# Altium schematic symbol library SCH - MCU - ATSAM - MICROCHIP ATSAMRH71F20C-7GB-E CQFP256.SchLib: 1 symbol
Pins are listed as number, name and electrical type; pins without a type are passive.

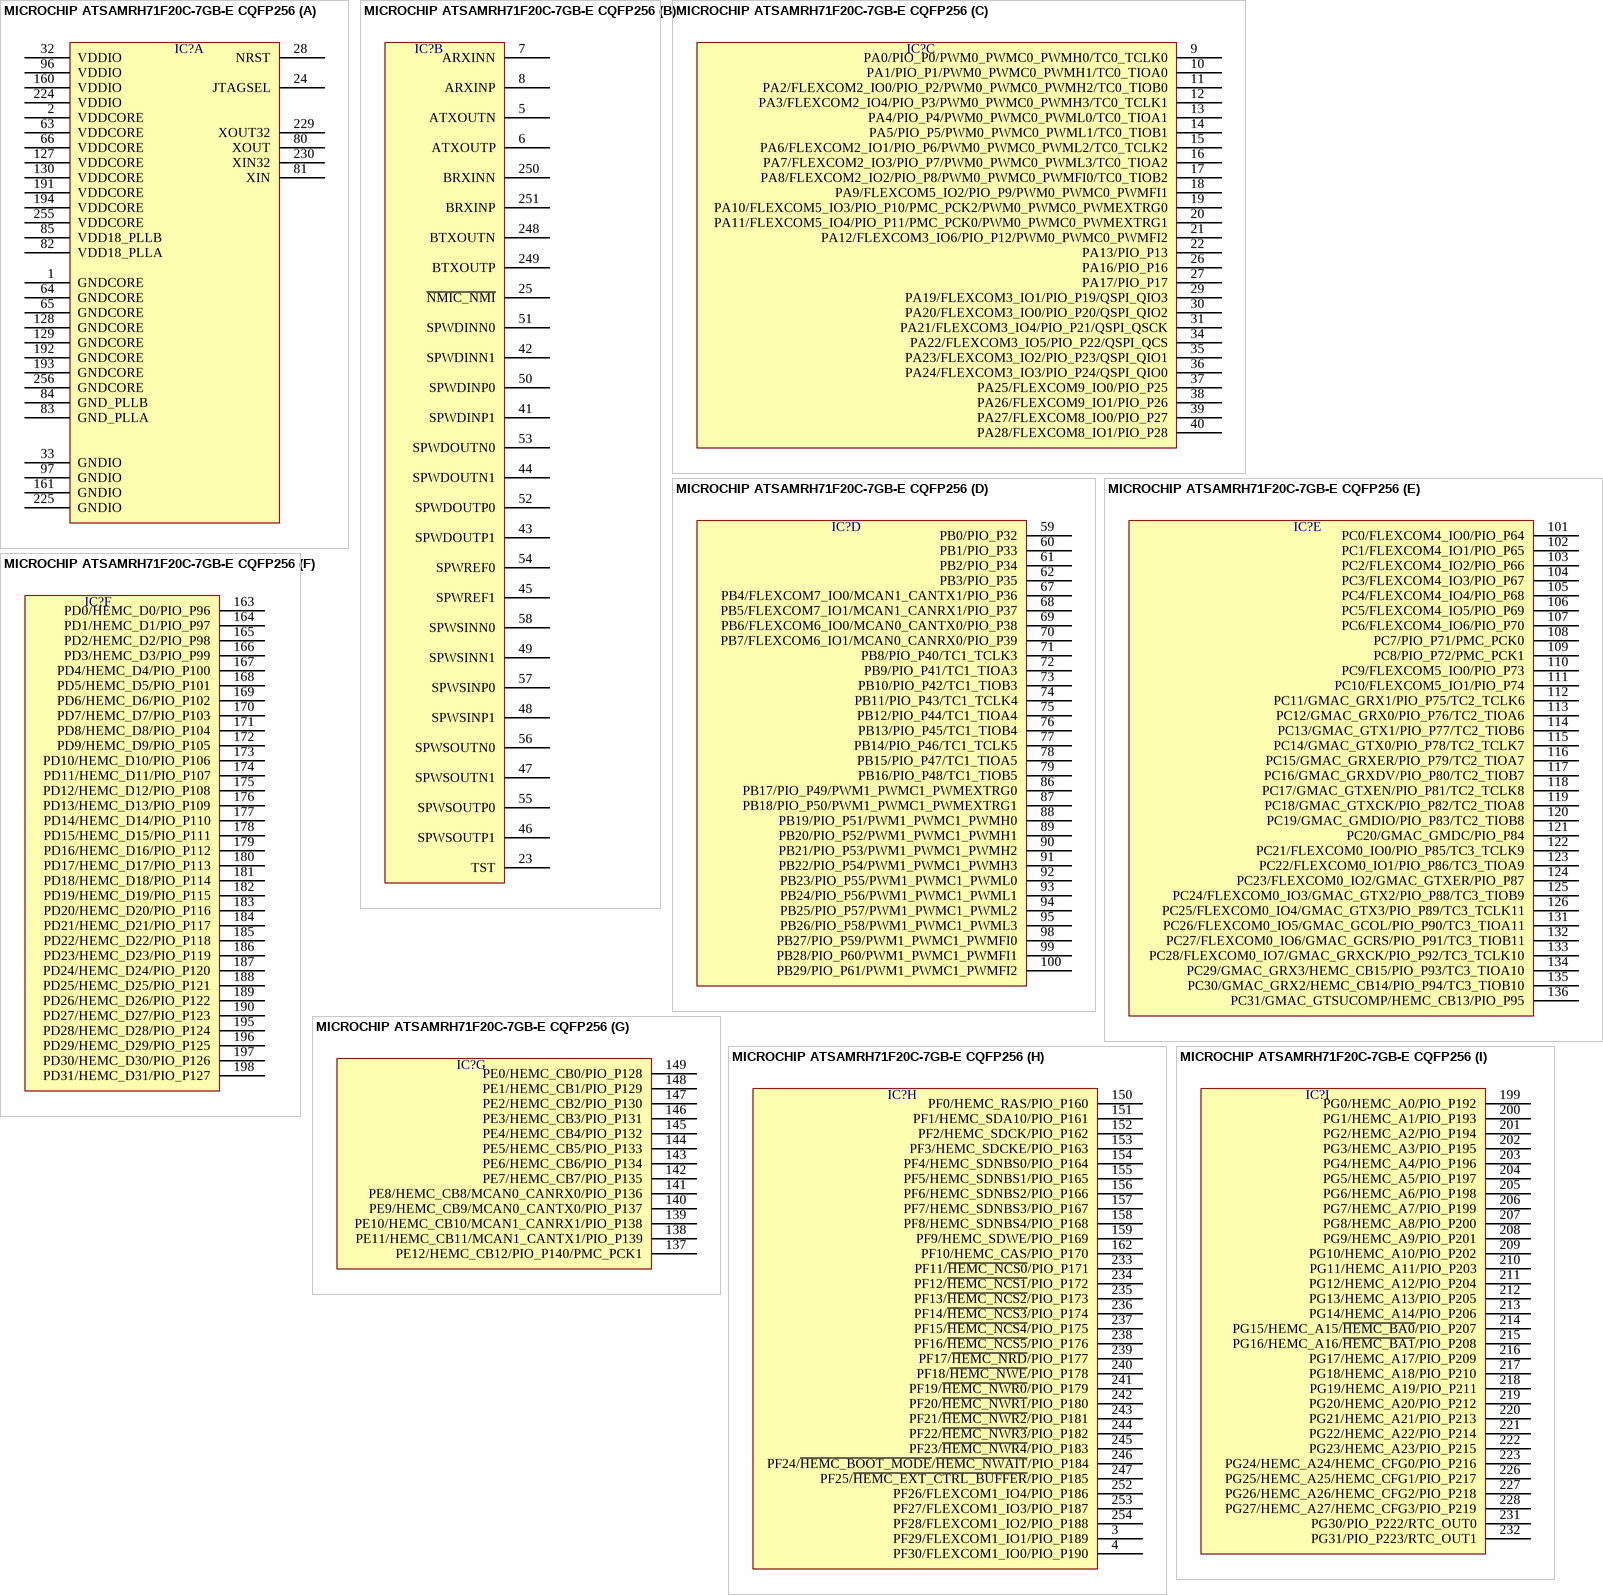
[diagram p0: symbol MICROCHIP ATSAMRH71F20C-7GB-E CQFP256]

## MICROCHIP ATSAMRH71F20C-7GB-E CQFP256
designator IC?  (value not drawn)
part A pins: 1 GNDCORE, 2 VDDCORE, 24 JTAGSEL, 28 NRST, 32 VDDIO, 33 GNDIO, 63 VDDCORE, 64 GNDCORE, 65 GNDCORE, 66 VDDCORE, 80 XOUT, 81 XIN, 82 VDD18_PLLA, 83 GND_PLLA, 84 GND_PLLB, 85 VDD18_PLLB, 96 VDDIO, 97 GNDIO, 127 VDDCORE, 128 GNDCORE, 129 GNDCORE, 130 VDDCORE, 160 VDDIO, 161 GNDIO, 191 VDDCORE, 192 GNDCORE, 193 GNDCORE, 194 VDDCORE, 224 VDDIO, 225 GNDIO, 229 XOUT32, 230 XIN32, 255 VDDCORE, 256 GNDCORE
part B pins: 5 ATXOUTN, 6 ATXOUTP, 7 ARXINN, 8 ARXINP, 23 TST, 25 ~{NMIC_NMI}, 41 SPWDINP1, 42 SPWDINN1, 43 SPWDOUTP1, 44 SPWDOUTN1, 45 SPWREF1, 46 SPWSOUTP1, 47 SPWSOUTN1, 48 SPWSINP1, 49 SPWSINN1, 50 SPWDINP0, 51 SPWDINN0, 52 SPWDOUTP0, 53 SPWDOUTN0, 54 SPWREF0, 55 SPWSOUTP0, 56 SPWSOUTN0, 57 SPWSINP0, 58 SPWSINN0, 248 BTXOUTN, 249 BTXOUTP, 250 BRXINN, 251 BRXINP
part C pins: 9 PA0/PIO_P0/PWM0_PWMC0_PWMH0/TC0_TCLK0, 10 PA1/PIO_P1/PWM0_PWMC0_PWMH1/TC0_TIOA0, 11 PA2/FLEXCOM2_IO0/PIO_P2/PWM0_PWMC0_PWMH2/TC0_TIOB0, 12 PA3/FLEXCOM2_IO4/PIO_P3/PWM0_PWMC0_PWMH3/TC0_TCLK1, 13 PA4/PIO_P4/PWM0_PWMC0_PWML0/TC0_TIOA1, 14 PA5/PIO_P5/PWM0_PWMC0_PWML1/TC0_TIOB1, 15 PA6/FLEXCOM2_IO1/PIO_P6/PWM0_PWMC0_PWML2/TC0_TCLK2, 16 PA7/FLEXCOM2_IO3/PIO_P7/PWM0_PWMC0_PWML3/TC0_TIOA2, 17 PA8/FLEXCOM2_IO2/PIO_P8/PWM0_PWMC0_PWMFI0/TC0_TIOB2, 18 PA9/FLEXCOM5_IO2/PIO_P9/PWM0_PWMC0_PWMFI1, 19 PA10/FLEXCOM5_IO3/PIO_P10/PMC_PCK2/PWM0_PWMC0_PWMEXTRG0, 20 PA11/FLEXCOM5_IO4/PIO_P11/PMC_PCK0/PWM0_PWMC0_PWMEXTRG1, 21 PA12/FLEXCOM3_IO6/PIO_P12/PWM0_PWMC0_PWMFI2, 22 PA13/PIO_P13, 26 PA16/PIO_P16, 27 PA17/PIO_P17, 29 PA19/FLEXCOM3_IO1/PIO_P19/QSPI_QIO3, 30 PA20/FLEXCOM3_IO0/PIO_P20/QSPI_QIO2, 31 PA21/FLEXCOM3_IO4/PIO_P21/QSPI_QSCK, 34 PA22/FLEXCOM3_IO5/PIO_P22/QSPI_QCS, 35 PA23/FLEXCOM3_IO2/PIO_P23/QSPI_QIO1, 36 PA24/FLEXCOM3_IO3/PIO_P24/QSPI_QIO0, 37 PA25/FLEXCOM9_IO0/PIO_P25, 38 PA26/FLEXCOM9_IO1/PIO_P26, 39 PA27/FLEXCOM8_IO0/PIO_P27, 40 PA28/FLEXCOM8_IO1/PIO_P28
part D pins: 59 PB0/PIO_P32, 60 PB1/PIO_P33, 61 PB2/PIO_P34, 62 PB3/PIO_P35, 67 PB4/FLEXCOM7_IO0/MCAN1_CANTX1/PIO_P36, 68 PB5/FLEXCOM7_IO1/MCAN1_CANRX1/PIO_P37, 69 PB6/FLEXCOM6_IO0/MCAN0_CANTX0/PIO_P38, 70 PB7/FLEXCOM6_IO1/MCAN0_CANRX0/PIO_P39, 71 PB8/PIO_P40/TC1_TCLK3, 72 PB9/PIO_P41/TC1_TIOA3, 73 PB10/PIO_P42/TC1_TIOB3, 74 PB11/PIO_P43/TC1_TCLK4, 75 PB12/PIO_P44/TC1_TIOA4, 76 PB13/PIO_P45/TC1_TIOB4, 77 PB14/PIO_P46/TC1_TCLK5, 78 PB15/PIO_P47/TC1_TIOA5, 79 PB16/PIO_P48/TC1_TIOB5, 86 PB17/PIO_P49/PWM1_PWMC1_PWMEXTRG0, 87 PB18/PIO_P50/PWM1_PWMC1_PWMEXTRG1, 88 PB19/PIO_P51/PWM1_PWMC1_PWMH0, 89 PB20/PIO_P52/PWM1_PWMC1_PWMH1, 90 PB21/PIO_P53/PWM1_PWMC1_PWMH2, 91 PB22/PIO_P54/PWM1_PWMC1_PWMH3, 92 PB23/PIO_P55/PWM1_PWMC1_PWML0, 93 PB24/PIO_P56/PWM1_PWMC1_PWML1, 94 PB25/PIO_P57/PWM1_PWMC1_PWML2, 95 PB26/PIO_P58/PWM1_PWMC1_PWML3, 98 PB27/PIO_P59/PWM1_PWMC1_PWMFI0, 99 PB28/PIO_P60/PWM1_PWMC1_PWMFI1, 100 PB29/PIO_P61/PWM1_PWMC1_PWMFI2
part E pins: 101 PC0/FLEXCOM4_IO0/PIO_P64, 102 PC1/FLEXCOM4_IO1/PIO_P65, 103 PC2/FLEXCOM4_IO2/PIO_P66, 104 PC3/FLEXCOM4_IO3/PIO_P67, 105 PC4/FLEXCOM4_IO4/PIO_P68, 106 PC5/FLEXCOM4_IO5/PIO_P69, 107 PC6/FLEXCOM4_IO6/PIO_P70, 108 PC7/PIO_P71/PMC_PCK0, 109 PC8/PIO_P72/PMC_PCK1, 110 PC9/FLEXCOM5_IO0/PIO_P73, 111 PC10/FLEXCOM5_IO1/PIO_P74, 112 PC11/GMAC_GRX1/PIO_P75/TC2_TCLK6, 113 PC12/GMAC_GRX0/PIO_P76/TC2_TIOA6, 114 PC13/GMAC_GTX1/PIO_P77/TC2_TIOB6, 115 PC14/GMAC_GTX0/PIO_P78/TC2_TCLK7, 116 PC15/GMAC_GRXER/PIO_P79/TC2_TIOA7, 117 PC16/GMAC_GRXDV/PIO_P80/TC2_TIOB7, 118 PC17/GMAC_GTXEN/PIO_P81/TC2_TCLK8, 119 PC18/GMAC_GTXCK/PIO_P82/TC2_TIOA8, 120 PC19/GMAC_GMDIO/PIO_P83/TC2_TIOB8, 121 PC20/GMAC_GMDC/PIO_P84, 122 PC21/FLEXCOM0_IO0/PIO_P85/TC3_TCLK9, 123 PC22/FLEXCOM0_IO1/PIO_P86/TC3_TIOA9, 124 PC23/FLEXCOM0_IO2/GMAC_GTXER/PIO_P87, 125 PC24/FLEXCOM0_IO3/GMAC_GTX2/PIO_P88/TC3_TIOB9, 126 PC25/FLEXCOM0_IO4/GMAC_GTX3/PIO_P89/TC3_TCLK11, 131 PC26/FLEXCOM0_IO5/GMAC_GCOL/PIO_P90/TC3_TIOA11, 132 PC27/FLEXCOM0_IO6/GMAC_GCRS/PIO_P91/TC3_TIOB11, 133 PC28/FLEXCOM0_IO7/GMAC_GRXCK/PIO_P92/TC3_TCLK10, 134 PC29/GMAC_GRX3/HEMC_CB15/PIO_P93/TC3_TIOA10, 135 PC30/GMAC_GRX2/HEMC_CB14/PIO_P94/TC3_TIOB10, 136 PC31/GMAC_GTSUCOMP/HEMC_CB13/PIO_P95
part F pins: 163 PD0/HEMC_D0/PIO_P96, 164 PD1/HEMC_D1/PIO_P97, 165 PD2/HEMC_D2/PIO_P98, 166 PD3/HEMC_D3/PIO_P99, 167 PD4/HEMC_D4/PIO_P100, 168 PD5/HEMC_D5/PIO_P101, 169 PD6/HEMC_D6/PIO_P102, 170 PD7/HEMC_D7/PIO_P103, 171 PD8/HEMC_D8/PIO_P104, 172 PD9/HEMC_D9/PIO_P105, 173 PD10/HEMC_D10/PIO_P106, 174 PD11/HEMC_D11/PIO_P107, 175 PD12/HEMC_D12/PIO_P108, 176 PD13/HEMC_D13/PIO_P109, 177 PD14/HEMC_D14/PIO_P110, 178 PD15/HEMC_D15/PIO_P111, 179 PD16/HEMC_D16/PIO_P112, 180 PD17/HEMC_D17/PIO_P113, 181 PD18/HEMC_D18/PIO_P114, 182 PD19/HEMC_D19/PIO_P115, 183 PD20/HEMC_D20/PIO_P116, 184 PD21/HEMC_D21/PIO_P117, 185 PD22/HEMC_D22/PIO_P118, 186 PD23/HEMC_D23/PIO_P119, 187 PD24/HEMC_D24/PIO_P120, 188 PD25/HEMC_D25/PIO_P121, 189 PD26/HEMC_D26/PIO_P122, 190 PD27/HEMC_D27/PIO_P123, 195 PD28/HEMC_D28/PIO_P124, 196 PD29/HEMC_D29/PIO_P125, 197 PD30/HEMC_D30/PIO_P126, 198 PD31/HEMC_D31/PIO_P127
part G pins: 137 PE12/HEMC_CB12/PIO_P140/PMC_PCK1, 138 PE11/HEMC_CB11/MCAN1_CANTX1/PIO_P139, 139 PE10/HEMC_CB10/MCAN1_CANRX1/PIO_P138, 140 PE9/HEMC_CB9/MCAN0_CANTX0/PIO_P137, 141 PE8/HEMC_CB8/MCAN0_CANRX0/PIO_P136, 142 PE7/HEMC_CB7/PIO_P135, 143 PE6/HEMC_CB6/PIO_P134, 144 PE5/HEMC_CB5/PIO_P133, 145 PE4/HEMC_CB4/PIO_P132, 146 PE3/HEMC_CB3/PIO_P131, 147 PE2/HEMC_CB2/PIO_P130, 148 PE1/HEMC_CB1/PIO_P129, 149 PE0/HEMC_CB0/PIO_P128
part H pins: 3 PF29/FLEXCOM1_IO1/PIO_P189, 4 PF30/FLEXCOM1_IO0/PIO_P190, 150 PF0/HEMC_RAS/PIO_P160, 151 PF1/HEMC_SDA10/PIO_P161, 152 PF2/HEMC_SDCK/PIO_P162, 153 PF3/HEMC_SDCKE/PIO_P163, 154 PF4/HEMC_SDNBS0/PIO_P164, 155 PF5/HEMC_SDNBS1/PIO_P165, 156 PF6/HEMC_SDNBS2/PIO_P166, 157 PF7/HEMC_SDNBS3/PIO_P167, 158 PF8/HEMC_SDNBS4/PIO_P168, 159 PF9/HEMC_SDWE/PIO_P169, 162 PF10/HEMC_CAS/PIO_P170, 233 PF11/~{HEMC_NCS0}/PIO_P171, 234 PF12/~{HEMC_NCS1}/PIO_P172, 235 PF13/~{HEMC_NCS2}/PIO_P173, 236 PF14/~{HEMC_NCS3}/PIO_P174, 237 PF15/~{HEMC_NCS4}/PIO_P175, 238 PF16/~{HEMC_NCS5}/PIO_P176, 239 PF17/~{HEMC_NRD}/PIO_P177, 240 PF18/~{HEMC_NWE}/PIO_P178, 241 PF19/~{HEMC_NWR0}/PIO_P179, 242 PF20/~{HEMC_NWR1}/PIO_P180, 243 PF21/~{HEMC_NWR2}/PIO_P181, 244 PF22/~{HEMC_NWR3}/PIO_P182, 245 PF23/~{HEMC_NWR4}/PIO_P183, 246 PF24/~{HEMC_BOOT_MODE}/~{HEMC_NWAIT}/PIO_P184, 247 PF25/~{HEMC_EXT_CTRL_BUFFER}/PIO_P185, 252 PF26/FLEXCOM1_IO4/PIO_P186, 253 PF27/FLEXCOM1_IO3/PIO_P187, 254 PF28/FLEXCOM1_IO2/PIO_P188
part I pins: 199 PG0/HEMC_A0/PIO_P192, 200 PG1/HEMC_A1/PIO_P193, 201 PG2/HEMC_A2/PIO_P194, 202 PG3/HEMC_A3/PIO_P195, 203 PG4/HEMC_A4/PIO_P196, 204 PG5/HEMC_A5/PIO_P197, 205 PG6/HEMC_A6/PIO_P198, 206 PG7/HEMC_A7/PIO_P199, 207 PG8/HEMC_A8/PIO_P200, 208 PG9/HEMC_A9/PIO_P201, 209 PG10/HEMC_A10/PIO_P202, 210 PG11/HEMC_A11/PIO_P203, 211 PG12/HEMC_A12/PIO_P204, 212 PG13/HEMC_A13/PIO_P205, 213 PG14/HEMC_A14/PIO_P206, 214 PG15/HEMC_A15/~{HEMC_BA0}/PIO_P207, 215 PG16/HEMC_A16/~{HEMC_BA1}/PIO_P208, 216 PG17/HEMC_A17/PIO_P209, 217 PG18/HEMC_A18/PIO_P210, 218 PG19/HEMC_A19/PIO_P211, 219 PG20/HEMC_A20/PIO_P212, 220 PG21/HEMC_A21/PIO_P213, 221 PG22/HEMC_A22/PIO_P214, 222 PG23/HEMC_A23/PIO_P215, 223 PG24/HEMC_A24/HEMC_CFG0/PIO_P216, 226 PG25/HEMC_A25/HEMC_CFG1/PIO_P217, 227 PG26/HEMC_A26/HEMC_CFG2/PIO_P218, 228 PG27/HEMC_A27/HEMC_CFG3/PIO_P219, 231 PG30/PIO_P222/RTC_OUT0, 232 PG31/PIO_P223/RTC_OUT1